# Altium footprint library Capacitor.PcbLib: 39 footprints (part 2 of 3)
Each footprint in its own frame and in the unit in brackets; x right, y up, seen from the top. Pads: shape width x height; smd on the part's side, far side on the other; paste and mask are expansions set on the pad; w line width, h text height; cw(c..) or ccw(c..) is an arc to the next point about the centre after c.
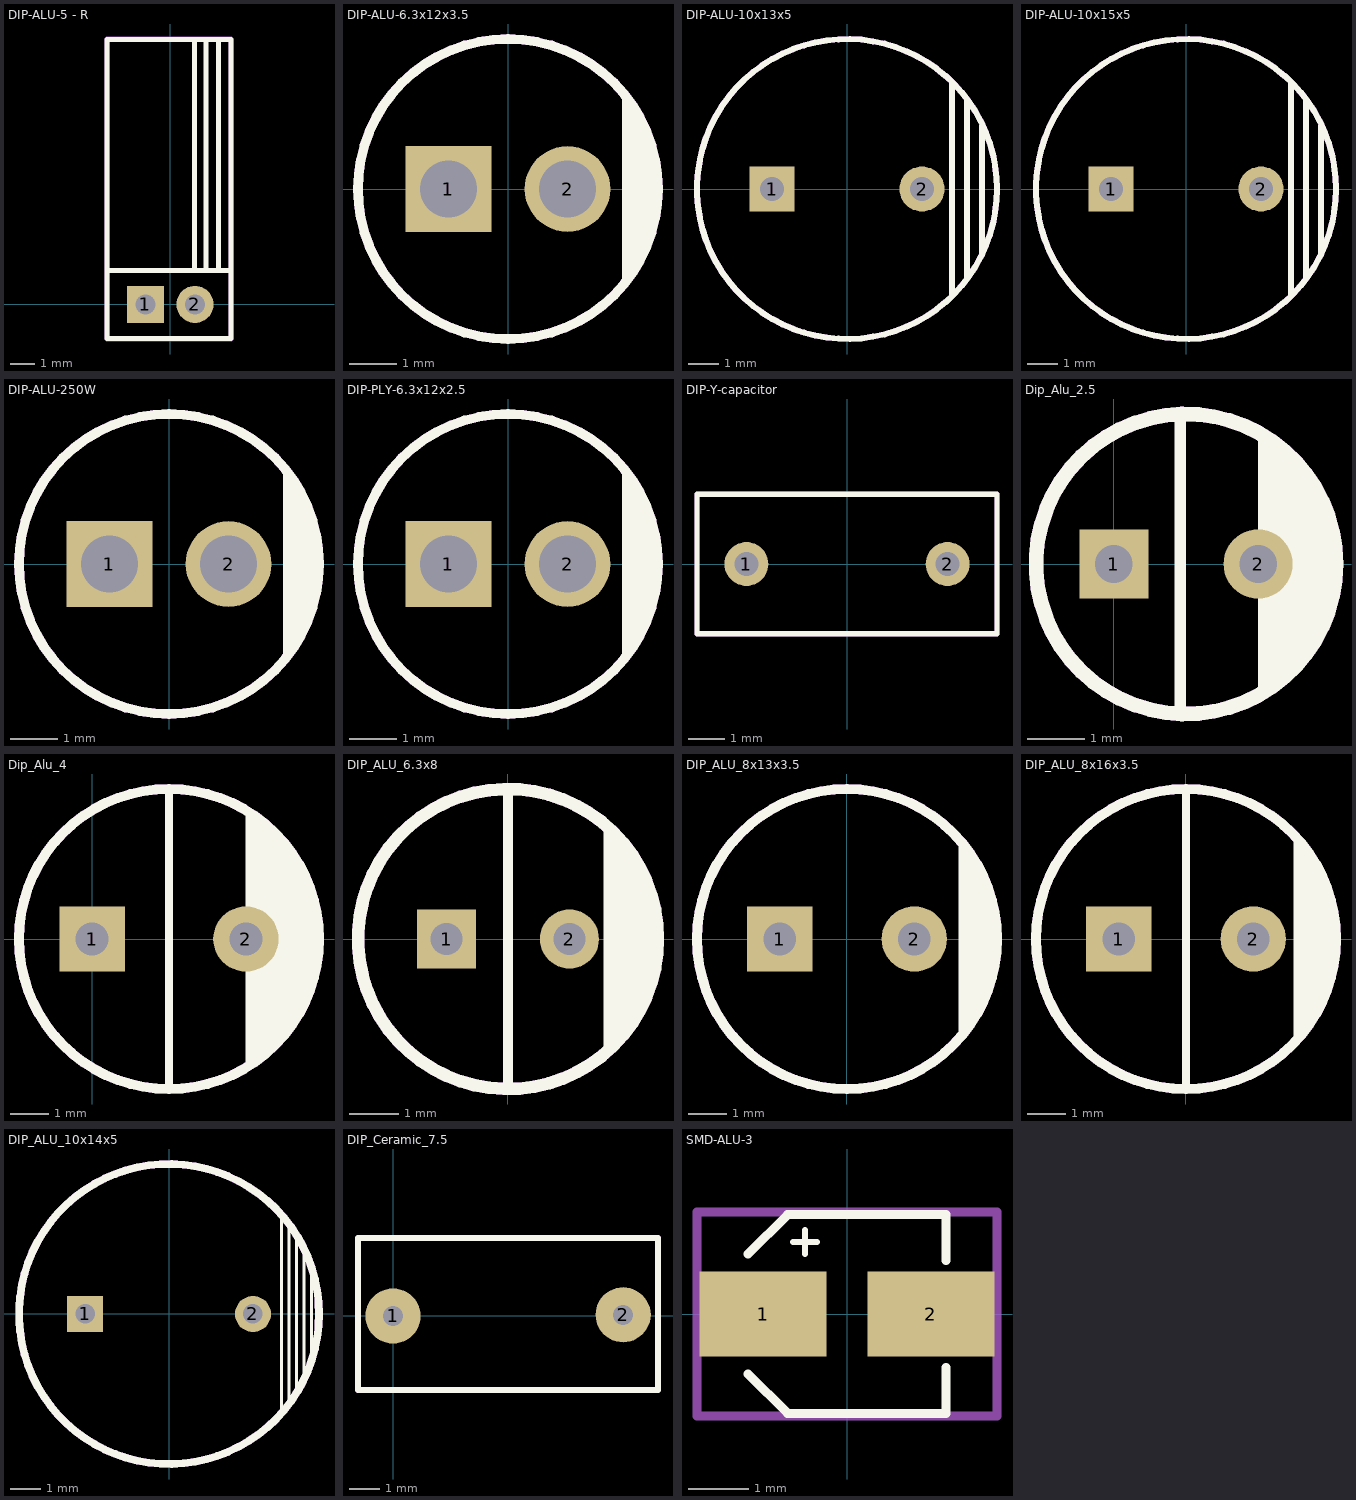
[diagram p1: the footprints below, top view; thin cyan lines are the x and y axes]

## DIP-ALU-5 - R [mm] "Polarized capacitors, Aluminum Electrolytic Capacitors, 2-Leads, Body 5x11x2x0.5"
height 11
pads (2):
  rect 1.5x1.5 hole 0.8: 1(-1,0)
  round 1.5 hole 0.8: 2(1,0)
Top Overlay:
  lines w0.2: -2.5,1.375 0.975,1.375 ; 0.975,10.7 0.975,1.375 ; 1,1.375 0.975,1.375 ; 1.025,1.375 1.1,1.375 ; 1.125,1.375 2.45,1.375 ; 1.45,1.4 1.45,10.675 ; 1.9,1.375 1.95,1.375 ; 1.95,1.425 1.95,10.675 ; -2.55,-1.375 2.45,-1.375 2.45,10.7 -2.55,10.7 -2.55,-1.375
Mechanical 13:
  lines w0.2: -2.55,-1.4 -2.55,10.725 2.45,10.725 2.45,-1.4 -2.55,-1.4
  text ".Designator" at -2.35,-0.7 h1.5
3D body "CAPPRD200W60D500H930.STEP": height 5, standoff 0, extent -2.525,-0.625 2.485,10.685

## DIP-ALU-6.3x12x3.5 [mm] "Capacitor, Polarized, Radial (Electrolytic); 2.50 mm C X 6.30 mm Dia X 15.00 mm H body"
height 15
pads (2):
  rect 1.8x1.8 hole 1.2 paste-1.8: 1(-1.25,0)
  round 1.8 hole 1.2 paste-1.8: 2(1.25,0)
Top Overlay:
  circle w0.12: c0,0 r3.15
  circle w0.2: c0,0 r3.15
  region: 2.4,2.05 2.4,-2.05 2.406,-2.044 2.583,-1.867 2.861,-1.451 3.052,-0.989 3.15,-0.498 3.15,-0.248 3.15,0.31 3.15,0.545 3.058,1.007 2.878,1.442 2.616,1.834 2.45,2
Mechanical 12:
  circle w0.025: c0,0 r3.15
  circle w0.025: c1.25,0 r0.5
  circle w0.025: c-1.25,0 r0.5
Mechanical 13:
  circle w0.2: c0,0 r3.15
  text ".Designator" at -2.9,-0.7 h1.5
Mechanical 15:
  circle w0.2: c0,0 r3.15
  text ".Comment" at -2.9,-0.45 h1.5
3D body: height 12.02, standoff 0, extent 2.386,-2 3.214,2
3D body: height 12, standoff 0, extent -3.15,-3.147 3.15,3.147

## DIP-ALU-10x13x5 [mm]
pads (2):
  rect 1.5x1.5 hole 0.8: 1(-2.5,0)
  round 1.5 hole 0.8: 2(2.5,0)
Top Overlay:
  circle w0.2: c0,0 r5
  lines w0.2: 3.5,-3.5 3.5,3.5 ; 4,-3 4,3 ; 4.5,-2.2 4.5,2.1
Mechanical 13:
  circle w0.2: c0,0 r5
  text ".Designator" at -3.9,-0.2 h1.5
Mechanical 15:
  circle w0.2: c0,0 r5
  text ".Comment" at -3.8,-0.2 h1.5
3D body: height 13, standoff 0, extent -5,-4.908 2,5.108
3D body: height 13, standoff 0, extent 2,-4.483 5,4.683

## DIP-ALU-10x15x5 [mm]
pads (2):
  rect 1.5x1.5 hole 0.8: 1(-2.5,0)
  round 1.5 hole 0.8: 2(2.5,0)
Top Overlay:
  circle w0.2: c0,0 r5
  lines w0.2: 3.5,-3.5 3.5,3.5 ; 4,-3 4,3 ; 4.5,-2.2 4.5,2.1
Mechanical 13:
  circle w0.2: c0,0 r5
  text ".Designator" at -3.9,-0.2 h1.5
Mechanical 15:
  circle w0.2: c0,0 r5
  text ".Comment" at -3.8,-0.2 h1.5
3D body: height 15, standoff 0, extent 2,-4.483 5,4.683
3D body: height 15, standoff 0, extent -5,-4.908 2,5.108

## DIP-ALU-250W [mm] "Capacitor, Polarized, Radial (Electrolytic); 2.50 mm C X 6.30 mm Dia X 15.00 mm H body"
height 15
pads (2):
  rect 1.8x1.8 hole 1.2 paste-1.8: 1(-1.25,0)
  round 1.8 hole 1.2 paste-1.8: 2(1.25,0)
Top Overlay:
  circle w0.12: c0,0 r3.15
  circle w0.2: c0,0 r3.15
  region: 2.4,2.05 2.4,-2.05 2.406,-2.044 2.583,-1.867 2.861,-1.451 3.052,-0.989 3.15,-0.498 3.15,-0.248 3.15,0.31 3.15,0.545 3.058,1.007 2.878,1.442 2.616,1.834 2.45,2
Mechanical 12:
  circle w0.025: c0,0 r3.15
  circle w0.025: c1.25,0 r0.5
  circle w0.025: c-1.25,0 r0.5
Mechanical 13:
  circle w0.2: c0,0 r3.15
  text ".Designator" at -2.9,-0.7 h1.5
Mechanical 15:
  circle w0.2: c0,0 r3.15
  text ".Comment" at -2.9,-0.45 h1.5
3D body "CA-ALU-250W100D630H1500.STEP": height 15.15, standoff -2.16, extent -3.15,-3.931 3.16,3.25

## DIP-PLY-6.3x12x2.5 [mm] "Capacitor, Polarized, Radial (Electrolytic); 2.50 mm C X 6.30 mm Dia X 15.00 mm H body"
height 15
pads (2):
  rect 1.8x1.8 hole 1.2 paste-1.8: 1(-1.25,0)
  round 1.8 hole 1.2 paste-1.8: 2(1.25,0)
Top Overlay:
  circle w0.2: c0,0 r3.15
  circle w0.12: c0,0 r3.15
  region: 2.4,2.05 2.4,-2.05 2.406,-2.044 2.583,-1.867 2.861,-1.451 3.052,-0.989 3.15,-0.498 3.15,-0.248 3.15,0.31 3.15,0.545 3.058,1.007 2.878,1.442 2.616,1.834 2.45,2
Mechanical 12:
  circle w0.025: c-1.25,0 r0.5
  circle w0.025: c1.25,0 r0.5
  circle w0.025: c0,0 r3.15
Mechanical 13:
  circle w0.2: c0,0 r3.15
  text ".Designator" at -2.9,-0.7 h1.5
Mechanical 15:
  circle w0.2: c0,0 r3.15
  text ".Comment" at -2.9,-0.45 h1.5
3D body: height 12, standoff 0, extent -3.15,-3.147 3.15,3.147
3D body: height 12.02, standoff 0, extent 2.386,-2 3.214,2

## DIP-Y-capacitor [mm]
pads (2):
  round 1.2 hole 0.65: 1(-2.75,0) 2(2.75,0)
Top Overlay:
  lines w0.15: -4.1,-1.9 4.1,-1.9 4.1,1.9 -4.1,1.9 -4.1,-1.9
Mechanical 13:
  lines w0.15: -4.1,-1.9 -4.1,1.9 4.1,1.9 4.1,-1.9 -4.1,-1.9
  text ".Designator" at -1.816,-0.1 h0.64
Mechanical 15:
  lines w0.15: -4.1,-1.9 -4.1,1.9 4.1,1.9 4.1,-1.9 -4.1,-1.9
  text ".Comment" at -1.816,-0.1 h0.64
3D body "CAPY250VAC.STEP": height 8, standoff -2, extent -4,-1.75 4,1.75

## Dip_Alu_2.5 [mm]
pads (2):
  rect 1.2x1.2 hole 0.65: 1(0,0)
  round 1.2 hole 0.65: 2(2.5,0)
Top Overlay:
  circle w0.254: c1.25,0 r2.6
  region: 2.5,-2.25 2.5,2.293 3.772,0.94 3.772,-0.978
  lines w0.2: 1.15,-2.55 1.15,2.6
Mechanical 13:
  circle w0.254: c1.25,0 r2.6
  text ".Designator" at 1.454,-2.243 h1
Mechanical 15:
  circle w0.254: c1.25,0 r2.6
  text ".Comment" at 1.454,-2.116 h1
3D body "ESK226M050AC3AA.step": height 13, standoff -19.5, extent -1.5,-2.7 4,2.8

## Dip_Alu_4 [mm]
pads (2):
  rect 1.7x1.7 hole 0.85: 1(0,0)
  round 1.7 hole 0.85: 2(4,0)
Top Overlay:
  circle w0.254: c2,0 r3.9
  region: 4,3.5 5.5,2 5.5,1.4 5.7,1.4 5.8,1.3 5.8,-1.25 5.7,-1.25 5.5,-1.45 5.5,-1.95 4.15,-3.3 4,-3.3
  lines w0.2: 2,-3.85 2,3.9
Mechanical 13:
  circle w0.254: c2,0 r3.9
  text ".Designator" at 2.08,-2.902 h0.64
Mechanical 15:
  circle w0.254: c2,0 r3.9
  text ".Comment" at 2.055,-2.928 h0.64
3D body "PCAP_8x15-THRU-ELECT.stp": height 14.78, standoff -4.67, extent -2.013,-4 6.013,4

## DIP_ALU_6.3x8 [mm]
height 8
pads (2):
  rect 1.2x1.2 hole 0.65: 1(-1.25,0)
  round 1.2 hole 0.65: 2(1.25,0)
Top Overlay:
  circle w0.254: c0,0 r3.05
  region: 1.95,-2.2 1.95,2.274 2.754,1.42 3.05,0.671 3.05,-0.738 2.794,-1.356
  lines w0.2: 0,-3.05 0,3.05
Mechanical 13:
  circle w0.254: c0,0 r3.05
  text ".Designator" at 0.204,-2.243 h1
Mechanical 15:
  circle w0.254: c0,0 r3.05
  text ".Comment" at 0.204,-2.116 h1
3D body "RS8.step": height 7.85, standoff -3.96, extent -3.155,-3.146 3.145,3.147

## Dip_Alu_7.5 [mm]
3D body "CAPRD750W80D1800H2500.STEP": height 9, standoff -9, extent -1.2,-5.2 16.8,21.81

## DIP_ALU_8x13x3.5 [mm]
pads (2):
  rect 1.7x1.7 hole 0.85: 1(-1.75,0)
  round 1.7 hole 0.85: 2(1.75,0)
Top Overlay:
  circle w0.254: c0,0 r3.9
  region: 2.9,-2.6 3.156,-2.344 3.333,-2.167 3.611,-1.751 3.802,-1.289 3.9,-0.798 3.9,-0.548 3.9,0.448 3.9,0.698 3.802,1.189 3.611,1.651 3.333,2.067 3.156,2.244 2.9,2.5
Mechanical 13:
  circle w0.254: c0,0 r3.9
  text ".Designator" at -1.9,-0.4 h1.5
3D body "User Library-Cap electro 8x11_5x3_5mm.step": height 12.03, standoff -3.48, extent -4.225,-4.05 3.825,4

## DIP_ALU_8x16x3.5 [mm]
pads (2):
  rect 1.7x1.7 hole 0.85: 1(-1.75,0)
  round 1.7 hole 0.85: 2(1.75,0)
Top Overlay:
  circle w0.254: c0,0 r3.9
  region: 2.8,2.7 3.5,2 3.5,1.4 3.7,1.4 3.8,1.3 3.8,-1.25 3.7,-1.25 3.5,-1.45 3.5,-1.95 2.8,-2.65
  lines w0.2: 0,-3.85 0,3.9
Mechanical 13:
  circle w0.254: c0,0 r3.9
  text ".Designator" at 0.08,-2.902 h0.64
Mechanical 15:
  circle w0.254: c0,0 r3.9
  text ".Comment" at 0.055,-2.928 h0.64
3D body "PCAP_8x15-THRU-ELECT.stp": height 14.78, standoff -4.67, extent -4.013,-4 4.013,4

## DIP_ALU_10x14x5 [mm]
height 8
pads (2):
  rect 1.2x1.2 hole 0.65: 1(-2.8,0)
  round 1.2 hole 0.65: 2(2.8,0)
Top Overlay:
  circle w0.254: c0,0 r5
  lines w0.1: 3.75,-3.3 3.75,3.4 ; 4,-3 4,3 ; 4.25,-2.5 4.25,2.65 ; 4.5,-2 4.5,2.15 ; 4.75,-1.5 4.75,1.45
Mechanical 13:
  circle w0.254: c0,0 r5
  text ".Designator" at -1.046,-2.243 h1
Mechanical 15:
  circle w0.254: c0,0 r5
  text ".Comment" at -1.046,-2.116 h1
3D body "CAP10x14.step": height 14.01, standoff -20, extent -5.25,-5.25 5.25,5.25

## DIP_Ceramic_7.5 [mm]
pads (2):
  round 1.8 hole 0.65: 1(0,0) 2(7.5,0.038)
Top Overlay:
  lines w0.2: -1.143,-2.413 -1.143,2.54 -0.254,2.54 8.636,2.54 8.636,-2.413 -0.635,-2.413 -1.143,-2.413
Mechanical 13:
  lines w0.2: -1.143,-2.413 -0.635,-2.413 8.636,-2.413 8.636,2.54 -0.254,2.54 -1.143,2.54 -1.143,-2.413
  text ".Designator" at 1.397,-0.127 h1
Mechanical 15:
  lines w0.2: -1.143,-2.413 -1.143,2.54 -0.127,2.54 8.636,2.54 8.636,-2.413 -0.508,-2.413 -1.143,-2.413
  text ".Comment" at 1.651,-0.127 h1
3D body "C907U102MYVDBA7317.step": height 11.5, standoff -19.3, extent -0.265,-2.465 7.885,2.54

## SMD-ALU-3 [mm] "Capacitor, Aluminum Electrolytic; 3.30 mm L X 3.30 mm W X 5.40 mm H body"
height 5.4
pads (2):
  rect 2.11x1.41 smd: 1(-1.4,0) 2(1.4,0)
Top Overlay:
  lines w0.1: -0.9,1.2 -0.5,1.2 ; -0.7,1 -0.7,1.4
  lines w0.15: -1.65,-1 -0.99,-1.655 1.65,-1.655 1.65,-0.89 ; -1.65,1 -0.99,1.655 1.65,1.655 1.65,0.89
Mechanical 13:
  lines w0.15: -2.5,-1.7 2.5,-1.7 2.5,1.7 -2.5,1.7 -2.5,-1.7
  text ".Designator" at -2.3,-0.2 h1
Mechanical 15:
  lines w0.15: -2.5,-1.7 -2.5,1.7 2.5,1.7 2.5,-1.7 -2.5,-1.7
  text ".Comment" at -2.3,-0.3 h1
3D body "CAP-ALU-SMD-AE330X540.STEP": height 5.4, standoff 0, extent -1.9,-1.65 1.9,1.65